# Altium footprint library flatsat_platform_2.PcbLib: 76 footprints (part 4 of 5)
Each footprint in its own frame and in the unit in brackets; x right, y up, seen from the top. Pads: shape width x height; smd on the part's side, far side on the other; paste and mask are expansions set on the pad; w line width, h text height; cw(c..) or ccw(c..) is an arc to the next point about the centre after c.
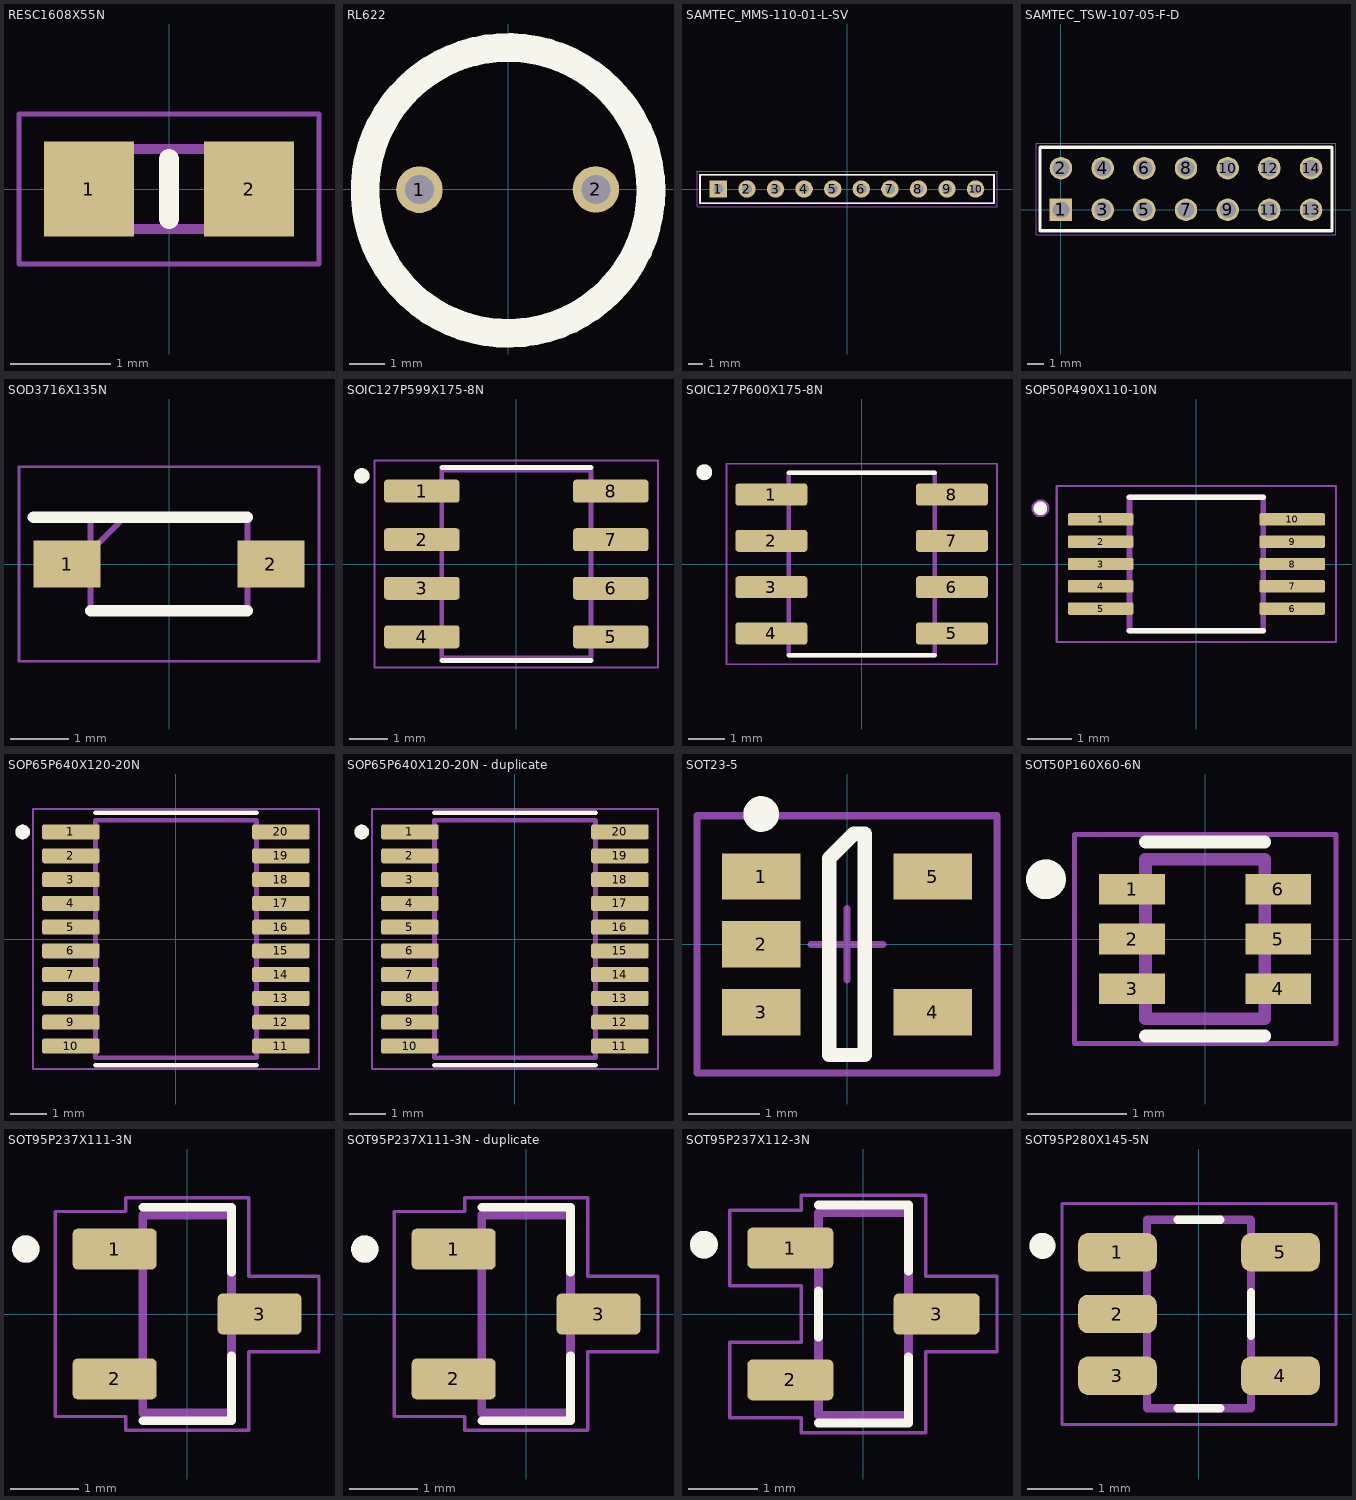
[diagram p3: the footprints below, top view; thin cyan lines are the x and y axes]

## RESC1608X55N [mm]
pads (2):
  rect 0.9x0.95 smd: 1(-0.8,0) 2(0.8,0)
Top Overlay:
  lines w0.2: 0,-0.3 0,0.3
Mechanical 13:
  lines w0.1: -0.8,-0.4 -0.8,0.4 0.8,0.4 0.8,-0.4 -0.8,-0.4
Mechanical 15:
  lines w0.05: -1.5,-0.75 -1.5,0.75 1.5,0.75 1.5,-0.75 -1.5,-0.75
3D body "0603WAF3002T5E.stp": height 0.55, standoff 0, extent -0.8,-0.4 0.8,0.4

## RL622 [mm]
pads (2):
  round 1.32 hole 0.82: 1(-2.51,-0.02) 2(2.49,-0.01)
Top Overlay:
  circle w0.813: c0,-0.04 r4.05
Mechanical 13:
  circle w0.2: c0,0 r4.25
3D body "rl622-3r3k-rc.stp": height 11.01, standoff -4.99, extent -4.25,-4.25 4.25,4.25

## SAMTEC_MMS-110-01-L-SV [mm]
pads (10):
  rect 1.219x1.219 hole 0.711: 1(-9,0)
  round 1.219 hole 0.711: 2(-7,0) 3(-5,0) 4(-3,0) 5(-1,0) 6(1,0) 7(3,0) 8(5,0) 9(7,0) 10(9,0)
Top Overlay:
  lines w0.127: -10.28,-1 10.28,-1 10.28,1 -10.28,1 -10.28,-1
Mechanical 13:
  circle w0.2: c-9,0 r0.1
  lines w0.127: -10.28,-1 -10.28,1 10.28,1 10.28,-1 -10.28,-1
Mechanical 15:
  lines w0.05: -10.5,-1.25 10.5,-1.25 10.5,1.25 -10.5,1.25 -10.5,-1.25
3D body "MMS-110-01-L-SV-01.stp": height 4.46, standoff -2.91, extent -10.274,-1 10.274,1

## SAMTEC_TSW-107-05-F-D [mm]
pads (14):
  rect 1.37x1.37 hole 1.02: 1(0,0)
  round 1.37 hole 1.02: 2(0,2.54) 3(2.54,0) 4(2.54,2.54) 5(5.08,0) 6(5.08,2.54) 7(7.62,0) 8(7.62,2.54) 9(10.16,0) 10(10.16,2.54) 11(12.7,0) 12(12.7,2.54) 13(15.24,0) 14(15.24,2.54)
Top Overlay:
  lines w0.2: -1.27,-1.27 -1.27,3.81 16.51,3.81 16.51,-1.27 -1.27,-1.27
Mechanical 13:
  lines w0.1: -1.27,-1.27 -1.27,3.81 16.51,3.81 16.51,-1.27 -1.27,-1.27
Mechanical 15:
  lines w0.05: -1.52,-1.52 -1.52,4.06 16.76,4.06 16.76,-1.52 -1.52,-1.52
3D body "TSW-107-05-F-D.stp": height 5.22, standoff -3.29, extent -1.27,-1.27 16.51,3.81

## SOD3716X135N [mm]
pads (2):
  rect 1.15x0.8 smd: 1(-1.75,0) 2(1.75,0)
Top Overlay:
  lines w0.2: -2.325,0.8 1.345,0.8 ; -1.345,-0.8 1.345,-0.8
Mechanical 13:
  lines w0.1: -1.345,0.225 -0.77,0.8 ; -1.345,-0.8 -1.345,0.8 1.345,0.8 1.345,-0.8 -1.345,-0.8
Mechanical 15:
  lines w0.05: -2.575,-1.67 -2.575,1.67 2.575,1.67 2.575,-1.67 -2.575,-1.67
3D body "SZMMSZ4685T1G.stp": height 1.35, standoff 0, extent -1.855,-0.8 1.855,0.8

## SOIC127P599X175-8N [mm]
pads (8):
  rrect25% 1.97x0.6 smd: 1(-2.47,1.905) 2(-2.47,0.635) 3(-2.47,-0.635) 4(-2.47,-1.905) 5(2.47,-1.905) 6(2.47,-0.635) 7(2.47,0.635) 8(2.47,1.905)
Top Overlay:
  circle w0.2: c-4.04,2.305 r0.1
  lines w0.127: -1.95,-2.525 1.95,-2.525 ; -1.95,2.525 1.95,2.525
Mechanical 13:
  circle w0.2: c-4.04,2.305 r0.1
  lines w0.127: -1.95,-2.452 1.95,-2.452 1.95,2.452 -1.95,2.452 -1.95,-2.452
Mechanical 15:
  lines w0.05: -3.705,-2.702 3.705,-2.702 3.705,2.702 -3.705,2.702 -3.705,-2.702
3D body "SN65HVD232D.STEP": height 1.75, standoff 0, extent -2.997,-2.451 2.998,2.451

## SOIC127P600X175-8N [mm]
pads (8):
  rrect25% 1.97x0.6 smd: 1(-2.475,1.905) 2(-2.475,0.635) 3(-2.475,-0.635) 4(-2.475,-1.905) 5(2.475,-1.905) 6(2.475,-0.635) 7(2.475,0.635) 8(2.475,1.905)
Top Overlay:
  circle w0.381: c-4.315,2.515 r0.025
  lines w0.127: -2,-2.5 2,-2.5 ; -2,2.5 2,2.5
Mechanical 13:
  circle w0: c-4.315,2.515 r0.2
  lines w0.127: -2,-2.5 2,-2.5 2,2.5 -2,2.5 -2,-2.5
Mechanical 15:
  lines w0.05: -3.71,-2.75 3.71,-2.75 3.71,2.75 -3.71,2.75 -3.71,-2.75
3D body "IC_Renesas_ISL83485IBZ-T_eec.STEP": height 1.75, standoff 0, extent -3,-2.45 3,2.45

## SOP50P490X110-10N [mm]
pads (10):
  rrect25% 1.47x0.28 smd: 1(-2.15,1) 2(-2.15,0.5) 3(-2.15,0) 4(-2.15,-0.5) 5(-2.15,-1) 6(2.15,-1) 7(2.15,-0.5) 8(2.15,0) 9(2.15,0.5) 10(2.15,1)
Top Overlay:
  circle w0.254: c-3.5,1.25 r0.025
  lines w0.127: -1.5,-1.5 1.5,-1.5 ; -1.5,1.5 1.5,1.5
Mechanical 13:
  circle w0.2: c-3.5,1.25 r0.1
  lines w0.127: -1.5,-1.5 1.5,-1.5 1.5,1.5 -1.5,1.5 -1.5,-1.5
Mechanical 15:
  lines w0.05: -3.135,-1.75 3.135,-1.75 3.135,1.75 -3.135,1.75 -3.135,-1.75
3D body "step_temp.STEP": height 1.1, standoff 0, extent -2.45,-1.5 2.45,1.5

## SOP65P640X120-20N [mm]
pads (20):
  rrect25% 1.57x0.41 smd: 1(-2.87,2.925) 2(-2.87,2.275) 3(-2.87,1.625) 4(-2.87,0.975) 5(-2.87,0.325) 6(-2.87,-0.325) 7(-2.87,-0.975) 8(-2.87,-1.625) 9(-2.87,-2.275) 10(-2.87,-2.925) 11(2.87,-2.925) 12(2.87,-2.275) 13(2.87,-1.625) 14(2.87,-0.975) 15(2.87,-0.325) 16(2.87,0.325) 17(2.87,0.975) 18(2.87,1.625) 19(2.87,2.275) 20(2.87,2.925)
Top Overlay:
  circle w0.2: c-4.19,2.925 r0.1
  lines w0.127: -2.2,-3.45 2.2,-3.45 ; -2.2,3.45 2.2,3.45
Mechanical 13:
  circle w0.2: c-4.19,2.925 r0.1
  lines w0.127: -2.2,-3.25 2.2,-3.25 2.2,3.25 -2.2,3.25 -2.2,-3.25
Mechanical 15:
  lines w0.05: -3.91,-3.55 3.91,-3.55 3.91,3.55 -3.91,3.55 -3.91,-3.55
3D body "TXB0108PWR.STEP": height 1.2, standoff 0, extent -3.2,-3.25 3.2,3.25

## SOP65P640X120-20N - duplicate [mm]
pads (20):
  rrect25% 1.57x0.41 smd: 1(-2.87,2.925) 2(-2.87,2.275) 3(-2.87,1.625) 4(-2.87,0.975) 5(-2.87,0.325) 6(-2.87,-0.325) 7(-2.87,-0.975) 8(-2.87,-1.625) 9(-2.87,-2.275) 10(-2.87,-2.925) 11(2.87,-2.925) 12(2.87,-2.275) 13(2.87,-1.625) 14(2.87,-0.975) 15(2.87,-0.325) 16(2.87,0.325) 17(2.87,0.975) 18(2.87,1.625) 19(2.87,2.275) 20(2.87,2.925)
Top Overlay:
  circle w0.2: c-4.19,2.925 r0.1
  lines w0.127: -2.2,-3.45 2.2,-3.45 ; -2.2,3.45 2.2,3.45
Mechanical 13:
  circle w0.2: c-4.19,2.925 r0.1
  lines w0.127: -2.2,-3.25 2.2,-3.25 2.2,3.25 -2.2,3.25 -2.2,-3.25
Mechanical 15:
  lines w0.05: -3.91,-3.55 -3.91,3.55 3.91,3.55 3.91,-3.55 -3.91,-3.55
3D body "TXS0108EPWR.STEP": height 1.2, standoff 0, extent -3.2,-3.25 3.2,3.25

## SOT23-5 [mm]
height 1.45
pads (5):
  rect 1.1x0.65 smd: 1(-1.2,0.95) 2(-1.2,0) 3(-1.2,-0.95) 4(1.2,-0.95) 5(1.2,0.95)
Top Overlay:
  circle w0.25: c-1.2,1.825 r0.125
  lines w0.2: -0.25,-1.55 -0.25,1.206 0.094,1.55 0.25,1.55 0.25,-1.55 -0.25,-1.55
Top Assembly:
  lines w0.1: -0.5,0 0.5,0 ; 0,-0.5 0,0.5 ; -2.1,-1.8 2.1,-1.8 2.1,1.8 -2.1,1.8 -2.1,-1.8
  text "'.Designator'" at -1.75,0.75 h0.8
3D body "SOT23-5.STEP": height 1.3, standoff 0, extent -1.5,-1.5 1.5,1.5

## SOT50P160X60-6N [mm]
pads (6):
  rect 0.66x0.31 smd: 1(-0.735,0.5) 2(-0.735,0) 3(-0.735,-0.5) 4(0.735,-0.5) 5(0.735,0) 6(0.735,0.5)
Top Overlay:
  circle w0.2: c-1.6,0.6 r0.1
  lines w0.127: -0.6,-0.975 0.6,-0.975 ; -0.6,0.975 0.6,0.975
Mechanical 13:
  circle w0.2: c-1.6,0.6 r0.1
  lines w0.127: -0.6,-0.8 -0.6,0.8 0.6,0.8 0.6,-0.8 -0.6,-0.8
Mechanical 15:
  lines w0.05: -1.315,-1.05 -1.315,1.05 1.315,1.05 1.315,-1.05 -1.315,-1.05
3D body "TMP112AIDRLT.STEP": height 0.61, standoff 0.01, extent -0.8,-0.8 0.8,0.8

## SOT95P237X111-3N [mm]
pads (3):
  rrect25% 1.23x0.6 smd: 1(-1.06,0.95) 2(-1.06,-0.95) 3(1.06,0)
Top Overlay:
  circle w0.2: c-2.36,0.95 r0.1
  lines w0.127: -0.65,-1.564 0.65,-1.564 0.65,-0.614 ; -0.65,1.564 0.65,1.564 0.65,0.614
Mechanical 13:
  circle w0.2: c-2.36,0.95 r0.1
  lines w0.127: -0.65,-1.45 0.65,-1.45 0.65,1.45 -0.65,1.45 -0.65,-1.45
Mechanical 15:
  lines w0.05: -1.93,-1.5 -1.93,1.5 -0.9,1.5 -0.9,1.7 0.9,1.7 0.9,0.55 1.93,0.55 1.93,-0.55 0.9,-0.55 0.9,-1.7 -0.9,-1.7 -0.9,-1.5 -1.93,-1.5
3D body "step_temp.STEP": height 1.11, standoff 0, extent -1.2,-1.45 1.2,1.45

## SOT95P237X111-3N - duplicate [mm]
pads (3):
  rrect25% 1.23x0.6 smd: 1(-1.06,0.95) 2(-1.06,-0.95) 3(1.06,0)
Top Overlay:
  circle w0.2: c-2.36,0.95 r0.1
  lines w0.127: -0.65,-1.564 0.65,-1.564 0.65,-0.614 ; -0.65,1.564 0.65,1.564 0.65,0.614
Mechanical 13:
  circle w0.2: c-2.36,0.95 r0.1
  lines w0.127: -0.65,-1.45 -0.65,1.45 0.65,1.45 0.65,-1.45 -0.65,-1.45
Mechanical 15:
  lines w0.05: -1.93,-1.5 -0.9,-1.5 -0.9,-1.7 0.9,-1.7 0.9,-0.55 1.93,-0.55 1.93,0.55 0.9,0.55 0.9,1.7 -0.9,1.7 -0.9,1.5 -1.93,1.5 -1.93,-1.5
3D body "step_temp.STEP": height 1.11, standoff 0, extent -1.2,-1.45 1.2,1.45

## SOT95P237X112-3N [mm]
pads (3):
  rrect25% 1.24x0.59 smd: 1(-1.055,0.95) 2(-1.055,-0.95) 3(1.055,0)
Top Overlay:
  circle w0.2: c-2.3,1 r0.1
  lines w0.127: -0.65,-1.57 0.65,-1.57 0.65,-0.615 ; -0.65,-0.33 -0.65,0.33 ; -0.65,1.57 0.65,1.57 0.65,0.615
Mechanical 13:
  circle w0.2: c-2.3,1 r0.1
  lines w0.127: -0.65,-1.46 -0.65,1.46 0.65,1.46 0.65,-1.46 -0.65,-1.46
Mechanical 15:
  lines w0.05: -1.925,-1.495 -0.9,-1.495 -0.9,-1.71 0.9,-1.71 0.9,-0.545 1.925,-0.545 1.925,0.545 0.9,0.545 0.9,1.71 -0.9,1.71 -0.9,1.495 -1.925,1.495 -1.925,0.405 -0.9,0.405 -0.9,-0.405 -1.925,-0.405 -1.925,-1.495
3D body "TL431AIDBZT.STEP": height 1.12, standoff 0, extent -1.185,-1.46 1.185,1.46

## SOT95P280X145-5N [mm]
pads (5):
  rrect50% 1.21x0.59 smd: 1(-1.255,0.95) 2(-1.255,0) 3(-1.255,-0.95) 4(1.255,-0.95) 5(1.255,0.95)
Top Overlay:
  circle w0.2: c-2.41,1.05 r0.1
  lines w0.127: -0.33,-1.45 0.33,-1.45 ; -0.33,1.45 0.33,1.45 ; 0.8,-0.335 0.8,0.335
Mechanical 13:
  circle w0.2: c-2.41,1.05 r0.1
  lines w0.127: -0.8,-1.45 0.8,-1.45 0.8,1.45 -0.8,1.45 -0.8,-1.45
Mechanical 15:
  lines w0.05: -2.11,-1.7 -2.11,1.7 2.11,1.7 2.11,-1.7 -2.11,-1.7
3D body "NOPB.STEP": height 1.45, standoff 0, extent -1.4,-1.45 1.4,1.45